# EAGLE library part ADG707 (library HyTechDevices)
ADG707 2 Analog 8:1 Multiplexer Datasheet <https://www.analog.com/media/en/technical-documentation/data-sheets/ADG706_707.pdf>
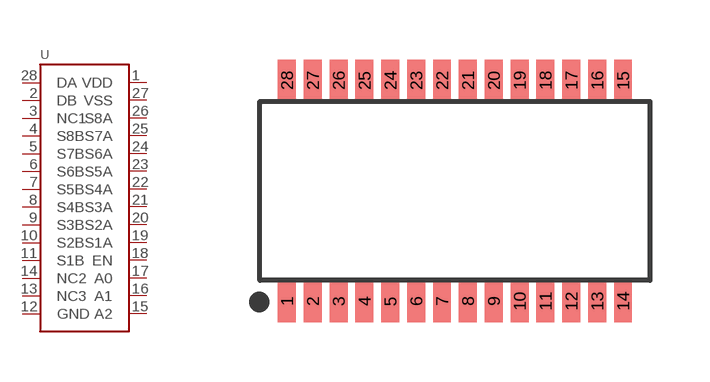
[diagram p84: symbol with the pads of TSSOP-28; footprint TSSOP-28]

Designator prefix -

## ADG707 (DKPN: ADG707BRUZ-REEL7CT-ND; MANUFACTURER: Analog Devices Inc.; MOPN: 584-ADG707BRUZ-R7; MPN: ADG707BRUZ-REEL7)  [TSSOP-28]
1  VDD  pwr
2  DB  out
3  NC1  nc
4  S8B  in
5  S7B  in
6  S6B  in
7  S5B  in
8  S4B  in
9  S3B  in
10  S2B  in
11  S1B  in
12  GND  pwr
13  NC3  nc
14  NC2  nc
15  A2  in
16  A1  in
17  A0  in
18  EN  in
19  S1A  in
20  S2A  in
21  S3A  in
22  S4A  in
23  S5A  in
24  S6A  in
25  S7A  in
26  S8A  in
27  VSS  pwr
28  DA  out

## Footprint TSSOP-28 (pad centres in mm)
TSSOP-28 Adapted from ADG707 Datasheet <https://www.analog.com/media/en/technical-documentation/data-sheets/ADG706_707.pdf> (found at bottom)
smd 0.45 x 1.05: 1 -4.225,-2.775; 2 -3.575,-2.775; 3 -2.925,-2.775; 4 -2.275,-2.775; 5 -1.625,-2.775; 6 -0.975,-2.775; 7 -0.325,-2.775; 8 0.325,-2.775; 9 0.975,-2.775; 10 1.625,-2.775; 11 2.275,-2.775; 12 2.925,-2.775; 13 3.575,-2.775; 14 4.225,-2.775; 15 4.225,2.775; 16 3.575,2.775; 17 2.925,2.775; 18 2.275,2.775; 19 1.625,2.775; 20 0.975,2.775; 21 0.325,2.775; 22 -0.325,2.775; 23 -0.975,2.775; 24 -1.625,2.775; 25 -2.275,2.775; 26 -2.925,2.775; 27 -3.575,2.775; 28 -4.225,2.775